# EAGLE library part HEADER-3X4 (library pixhawk2)
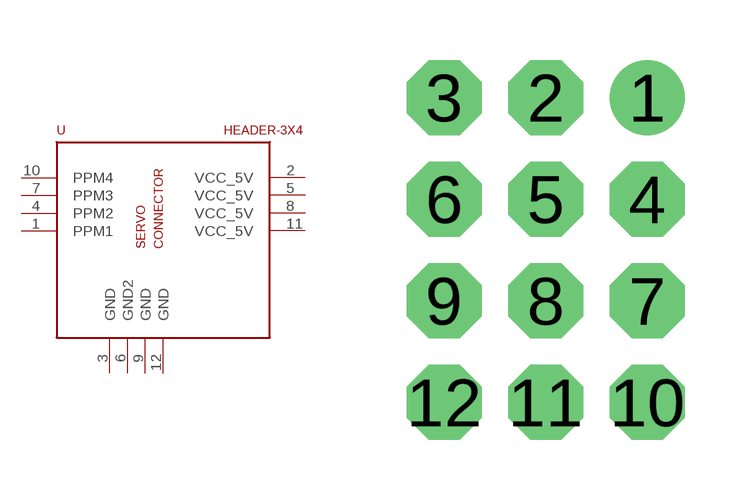
[diagram p70: symbol with the pads of 3X4RA; footprint 3X4RA]

Designator prefix -

## HEADER-3X4  [3X4RA]
1  PPM1
2  VCC_5V
3  GND
4  PPM2
5  VCC_5V
6  GND2
7  PPM3
8  VCC_5V
9  GND
10  PPM4
11  VCC_5V
12  GND

## Footprint 3X4RA (pad centres in mm)
drill 1.016 pad 1.88: 1 3.81,3.81
drill 1.016 pad 1.88 octagon: 2 1.27,3.81; 3 -1.27,3.81; 4 3.81,1.27; 5 1.27,1.27; 6 -1.27,1.27; 7 3.81,-1.27; 8 1.27,-1.27; 9 -1.27,-1.27; 10 3.81,-3.81; 11 1.27,-3.81; 12 -1.27,-3.81